# EAGLE library part DAC7562 (library MSSRP-Lib)
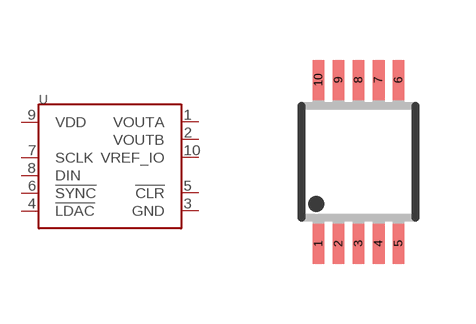
[diagram p3: symbol with the pads of MSOP10; footprint MSOP10]

Designator prefix -

## DAC7562  [MSOP10]
1  VOUTA  out
2  VOUTB  out
3  GND  pwr
4  !LDAC  in
5  !CLR  in
6  !SYNC  in
7  SCLK
8  DIN  in
9  VDD  pwr
10  VREF_IO

## Footprint MSOP10 (pad centres in mm)
smd 0.3 x 1: 1 -1,-2.05; 2 -0.5,-2.05; 3 0,-2.05; 4 0.5,-2.05; 5 1,-2.05; 6 1,2.05; 7 0.5,2.05; 8 0,2.05; 9 -0.5,2.05; 10 -1,2.05